# Altium footprint library PT15-21B.PcbLib: 1 footprints
Each footprint in its own frame and in the unit in brackets; x right, y up, seen from the top. Pads: shape width x height; smd on the part's side, far side on the other; paste and mask are expansions set on the pad; w line width, h text height; cw(c..) or ccw(c..) is an arc to the next point about the centre after c.
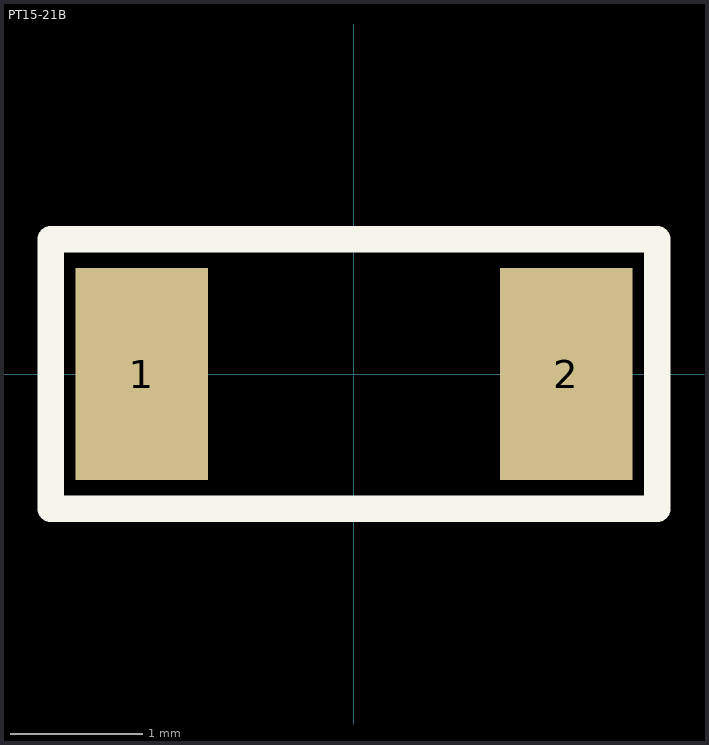
[diagram p0: the footprint, top view; thin cyan lines are the x and y axes]

## PT15-21B [mm]
height 0.7
pads (2):
  rect 1x1.6 smd: 1(-1.6,0) 2(1.6,0)
Top Overlay:
  lines w0.2: -2.286,-1.016 -2.286,1.016 2.286,1.016 2.286,-1.016 -2.286,-1.016
Top Assembly:
  lines w0.1: -2.286,-1.016 -2.286,1.016 2.286,1.016 2.286,-1.016 -2.286,-1.016
  text "'.Designator'" at -0.975,-0.35 h0.7